# Altium schematic symbol library Thermistor_Expansion_Board.SCHLIB: 11 symbols
Pins are listed as number, name and electrical type; pins without a type are passive.

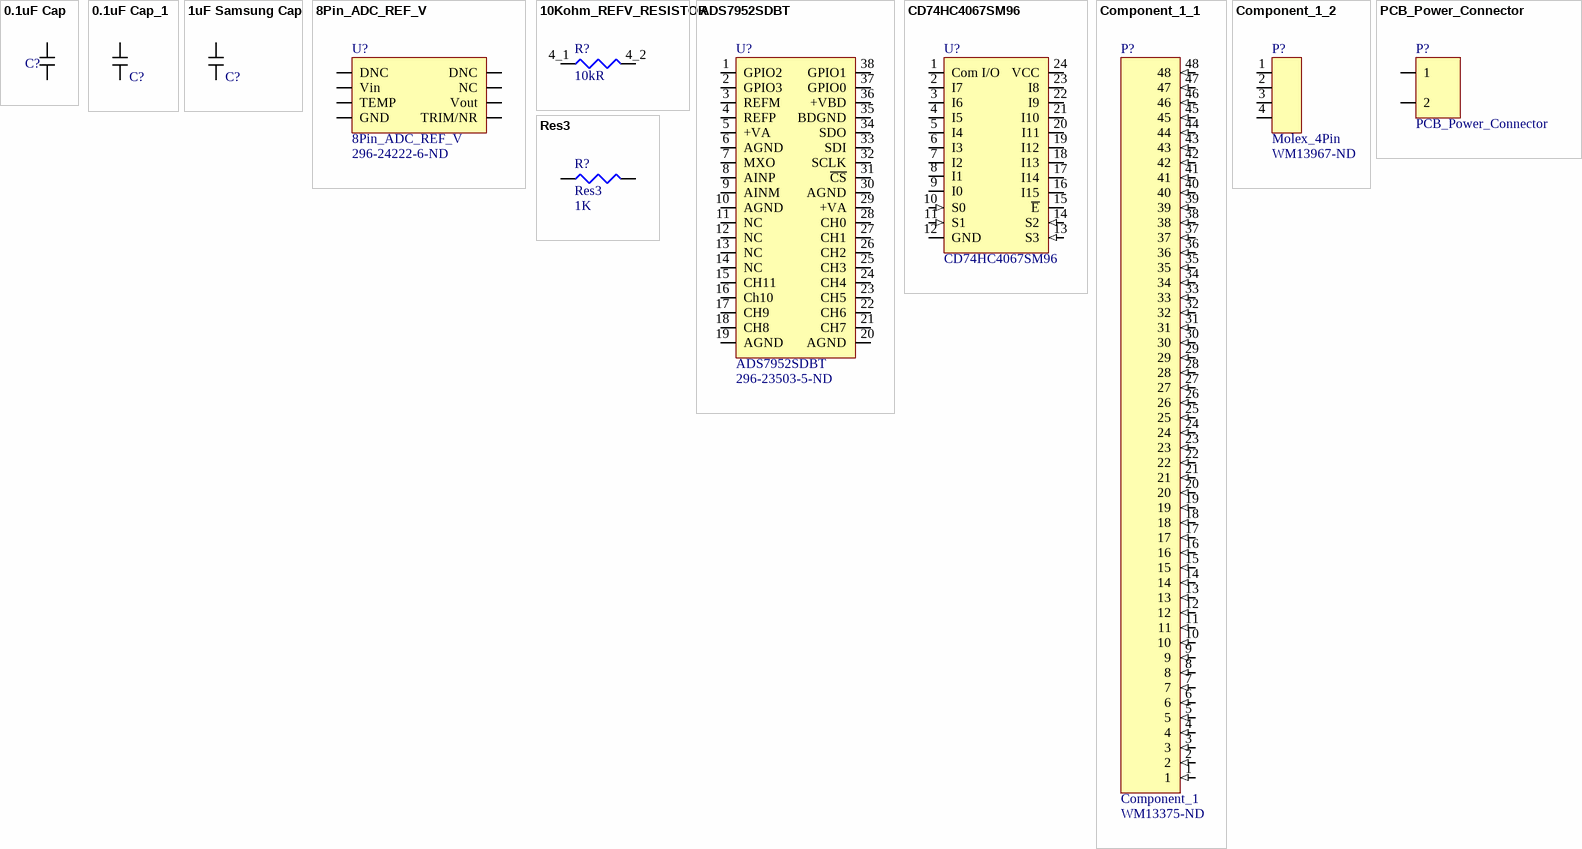
[diagram p0: symbols 0.1uF Cap to Res3]

## 0.1uF Cap
designator C?  (value not drawn)
C0603C101K8GAC7867 Kemet Capacitor; Supplier 1: Digi-Key; Supplier Part Number 1: 399-14477-1-ND
footprint 0.1uF_Kemet (Chip Capacitor, 2-Leads, Body 1.60x0.80mm, IPC Low Density)
pins: 1, 2

## 0.1uF Cap_1
designator C?, comment 0.1uF Cap  (value not drawn)
C0603C101K8GAC7867 Kemet Capacitor; Supplier 1: Digi-Key; Supplier Part Number 1: 399-14477-1-ND
footprint 0.1uF_Kemet (Chip Capacitor, 2-Leads, Body 1.60x0.80mm, IPC Low Density)
pins: 1, 2

## 1uF Samsung Cap
designator C?  (value not drawn)
Supplier 1: Digi-Key; Supplier Part Number 1: 1276-1946-1-ND
footprint 1uf_Samsung (Chip Capacitor, 2-Leads, Body 1.60x0.80mm, IPC Low Density)
pins: 1, 2

## 8Pin_ADC_REF_V
designator U?  Supplier Part Number 1: 296-24222-6-ND
Manufacturer: Texas Instruments; Manufacturer Part Number: REF5025AQDRQ1; Max Input Voltage: 18V; Output Voltage: 2.5V; Min Input Voltage: 2.7V; Nominal Supply Current: 800uA; Tolerance: 0.1%; Max Output Current: 10mA; Operating Supply Current: 1.2mA; Temperature Coefficient: 3ppm/°C; Reference Type: Series; Output Type: Fixed; Supplier 1: Digi-Key; Stock 1: 2420; Pricing 1: 1=3.54, 10=3.182, 100=2.607, 500=2.2193, 1000=1.8717 (USD); Case/Package: D; Number of Pins: 8; Weight: 0.002677oz; Min Operating Temperature: -40°C; Max Operating Temperature: 125°C; Packaging: Tape and Reel; Package Quantity: 1; Min Output Voltage: 2.5V; Output Current: 10mA; Max Output Voltage: 2.5V; Quiescent Current: 800uA; Radiation Hardening: No; Lead Free: Lead Free; ComponentLink1URL: http://www.ti.com/lit/ds/symlink/ref5025a-q1.pdf; ComponentLink1Description: http://www.ti.com/lit/ds/symlink/ref5025a-q1.pdf
footprint SOIC127P600X175-8N (SOIC, 8-Leads, Body 4.90x3.90mm, Pitch 1.27mm, IPC Medium Density)
pins: 1 DNC, 2 Vin, 3 TEMP, 4 GND, 5 TRIM/NR, 6 Vout, 7 NC, 8 DNC

## 10Kohm_REFV_RESISTOR
designator R?  Resistance: 10kR  (hidden comment: 10Kohm_REFV_RESISTOR)
Manufacturer: Rohm; Manufacturer Part Number: ESR03EZPF1002; Tolerance: 1%; Power Rating: 250mW; Temperature Coefficient: 100ppm/°C; Supplier 1: Digi-Key; Stock 1: 250527; Pricing 1: 1=0.14, 10=0.126, 100=0.0484, 1000=0.0213, 2500=0.0184 (USD); Case/Package: 0603; Case Code (Metric): 1608; Case Code (Imperial): 0603; Min Operating Temperature: -55°C; Max Operating Temperature: 155°C; Package Quantity: 1; Packaging: Tape and Reel; Composition: Thick Film; Number of Terminations: 2; Max Power Dissipation: 250mW; Features: Automotive AEC-Q200; Length: 0.063inch; Height: 0.022inch; Width: 0.031inch; Lead Free: Lead Free; ComponentLink1URL: https://www.rohm.com/datasheet/ESR01MZPF/esr-e; ComponentLink1Description: https://www.rohm.com/datasheet/ESR01MZPF/esr-e; Supplier Part Number 1: RHM10KADCT-ND
footprint REFV_10K_RES
pins: 4_1 1, 4_2 2

## ADS7952SDBT
designator U?  Supplier Part Number 1: 296-23503-5-ND
Supplier 1: Digi-Key
footprint TSSOP50P640X120-38N (TSSOP, 38-Leads, Body 9.70x4.40mm, Pitch 0.50mm, IPC Medium Density)
pins: 1 GPIO2, 2 GPIO3, 3 REFM, 4 REFP, 5 +VA, 6 AGND, 7 MXO, 8 AINP, 9 AINM, 10 AGND, 11 NC, 12 NC, 13 NC, 14 NC, 15 CH11, 16 Ch10, 17 CH9, 18 CH8, 19 AGND, 20 AGND, 21 CH7, 22 CH6, 23 CH5, 24 CH4, 25 CH3, 26 CH2, 27 CH1, 28 CH0, 29 +VA, 30 AGND, 31 ~{CS}, 32 SCLK, 33 SDI, 34 SDO, 35 BDGND, 36 +VBD, 37 GPIO0, 38 GPIO1

## CD74HC4067SM96
designator U?
Supplier Part Number 1: 05B6161; Supplier 1: Newark
footprint SOIC-24_MUX (SOIC, 24-Leads, Body 15.40x7.50mm, Pitch 1.27mm, IPC Medium Density)
pins: 1 Com I/O, 2 I7, 3 I6, 4 I5, 5 I4, 6 I3, 7 I2, 8 I1, 9 I0, 10 S0 (in), 11 S1 (in), 12 GND, 13 S3 (in), 14 S2 (in), 15 ~{E}, 16 I15, 17 I14, 18 I13, 19 I12, 20 I11, 21 I10, 22 I9, 23 I8, 24 VCC

## Component_1_1
designator P?, comment Component_1  Supplier Part Number 1: WM13375-ND
CONN CMC HEADER 48POS R/A BROWN; Supplier 1: Digi-Key
footprint Molex CMC 36638 (48 Pin Connector)
pins: 1 (in), 2 (in), 3 (in), 4 (in), 5 (in), 6 (in), 7 (in), 8 (in), 9 (in), 10 (in), 11 (in), 12 (in), 13 (in), 14 (in), 15 (in), 16 (in), 17 (in), 18 (in), 19 (in), 20 (in), 21 (in), 22 (in), 23 (in), 24 (in), 25 (in), 26 (in), 27 (in), 28 (in), 29 (in), 30 (in), 31 (in), 32 (in), 33 (in), 34 (in), 35 (in), 36 (in), 37 (in), 38 (in), 39 (in), 40 (in), 41 (in), 42 (in), 43 (in), 44 (in), 45 (in), 46 (in), 47 (in), 48 (in)

## Component_1_2
designator P?, comment Molex_4Pin  Supplier Part Number 1: WM13967-ND
Supplier 1: Digi-Key
footprint MUX_SEL_CON
pins: 1, 2, 3, 4

## PCB_Power_Connector
designator P?
footprint Power_Connector
pins: 1 "Board Power", 2 "Board Power"

## Res3
designator R?  value 1K
Resistor; Published: 8-Jun-2000; LatestRevisionDate: 29-May-2009; LatestRevisionNote: IPC-7351 Footprint Added.; PackageReference: J1-0603; Publisher: Altium Limited; PackageDescription: Chip Resistor
footprint J1-0603 (Chip Resistor, Body 1.6x0.8mm, IPC High Density)
footprint 14-1210 (Chip Resistor, Body 3.2x2.5mm, IPC High Density)
footprint 12Z-2010 (Chip Resistor, Body 5.0x2.5mm, IPC High Density)
footprint RESC6332 (Chip Resistor, Body 6.3x3.2mm, IPC High Density)
simulation model RESISTOR (Resistor)
signal-integrity model Res
pins: 1, 2